# Altium footprint library CopperComponents.PcbLib: 25 footprints (part 2 of 2)
Each footprint in its own frame and in the unit in brackets; x right, y up, seen from the top. Pads: shape width x height; smd on the part's side, far side on the other; paste and mask are expansions set on the pad; w line width, h text height; cw(c..) or ccw(c..) is an arc to the next point about the centre after c.
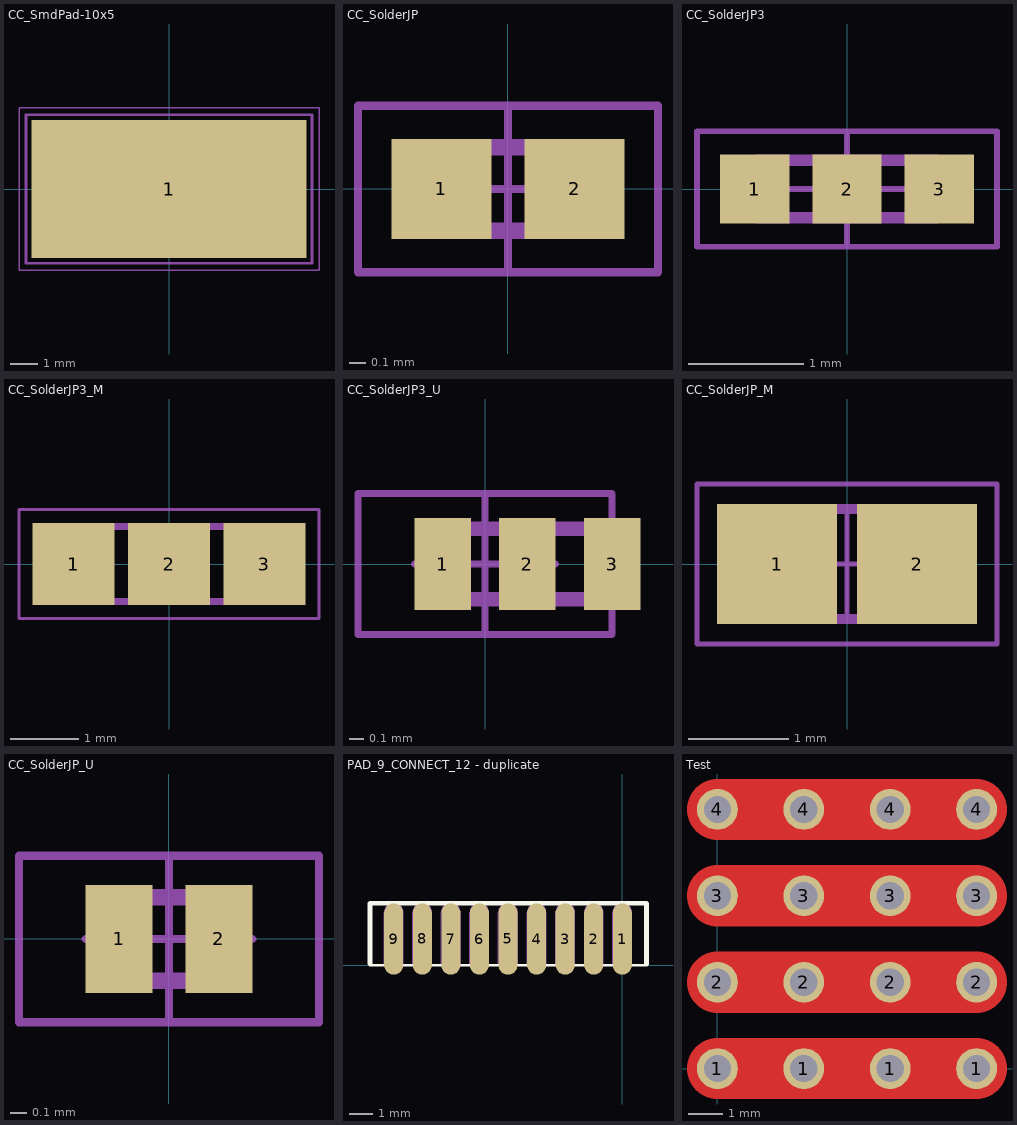
[diagram p1: the footprints below, top view; thin cyan lines are the x and y axes]

## CC_SmdPad-10x5 [mm] "Smd pad 10 x 5 mm"
pads (1):
  rect 10x5 smd: 1(0,0)
TopBody:
  lines w0.1: -5.2,-2.7 5.2,-2.7 5.2,2.7 -5.2,2.7 -5.2,-2.7
TopCourtyard:
  lines w0.05: -0.5,0 0,0 ; 0,-0.5 0,0 ; 0,0.5 0,0 ; 0.5,0 0,0 ; -5.45,-2.95 5.45,-2.95 5.45,2.95 -5.45,2.95 -5.45,-2.95
3D body: height 1, standoff 0, extent -5.2,-2.7 5.2,2.7

## CC_SolderJP [mm] "Small Solder Jumper 2 leads"
pads (2):
  rect 0.6x0.6 smd paste-0.6 mask+0.05: 1(-0.4,0) 2(0.4,0)
TopBody:
  lines w0.1: -0.5,-0.1 ccw(c-0.35,-0.1) -0.35,-0.25 0.35,-0.25 ccw(c0.35,-0.1) 0.5,-0.1 0.5,0.1 ccw(c0.35,0.1) 0.35,0.25 -0.35,0.25 ccw(c-0.35,0.1) -0.5,0.1 ; -0.5,-0.1 -0.5,0.1 ; -0.5,-0.1 -0.4,0 -0.5,0.1 ; -0.5,-0.1 -0.4,-0.1 -0.3,0 -0.4,0.1 -0.5,0.1
  text ".Designator" at -0.8,0.5 h0.5
TopCourtyard:
  lines w0.05: -0.5,0 0.5,0 ; 0,-0.5 0,0.5 ; -0.9,-0.5 0.9,-0.5 0.9,0.5 -0.9,0.5 -0.9,-0.5
3D body: height 0.4, standoff 0, extent -0.512,-0.262 0.512,0.262

## CC_SolderJP3 [mm] "Small Solder Jumper 3 leads"
pads (3):
  rect 0.6x0.6 smd paste-0.6 mask+0.05: 1(-0.8,0) 2(0,0) 3(0.8,0)
TopBody:
  lines w0.1: -0.9,-0.2 -0.7,0 -0.9,0.2 ; -0.9,-0.1 ccw(c-0.75,-0.1) -0.75,-0.25 -0.05,-0.25 ccw(c-0.05,-0.1) 0.1,-0.1 0.1,0.1 ccw(c-0.05,0.1) -0.05,0.25 -0.75,0.25 ccw(c-0.75,0.1) -0.9,0.1 ; -0.9,-0.1 -0.8,0 -0.9,0.1 ; -0.9,-0.1 -0.9,0.1 ; 0.9,-0.1 cw(c0.75,-0.1) 0.75,-0.25 0.05,-0.25 cw(c0.05,-0.1) -0.1,-0.1 -0.1,0.1 cw(c0.05,0.1) 0.05,0.25 0.75,0.25 cw(c0.75,0.1) 0.9,0.1 ; 0.9,-0.1 0.9,0.1 ; 0.9,-0.1 0.9,0.1
  text ".Designator" at -0.8,0.5 h0.5
TopCourtyard:
  lines w0.05: -0.5,0 0.5,0 ; 0,-0.5 0,0.5 ; -1.3,-0.5 -1.3,0.5 1.3,0.5 1.3,-0.5 -1.3,-0.5
3D body: height 0.4, standoff 0, extent -0.912,-0.262 0.112,0.262
3D body: height 0.4, standoff 0, extent -0.112,-0.262 0.912,0.262

## CC_SolderJP3_M [mm] "Medium Solder Jumper 3 leads"
pads (3):
  rect 1.2x1.2 smd paste-0.6 mask+0.05: 1(-1.4,0) 2(0,0) 3(1.4,0)
TopBody:
  lines w0.1: -1.8,-0.3 -1.5,0 -1.8,0.3 ; -1.8,-0.2 -1.6,0 -1.8,0.2 ; -1.8,-0.1 -1.7,0 -1.8,0.1 ; -1.8,-0.55 1.8,-0.55 1.8,0.55 -1.8,0.55 -1.8,-0.55
  text ".Designator" at -0.8,0.9 h0.5
TopCourtyard:
  lines w0.05: -0.5,0 0.5,0 ; 0,-0.5 0,0.5 ; -2.2,-0.8 -2.2,0.8 2.2,0.8 2.2,-0.8 -2.2,-0.8
3D body: height 0.4, standoff -0.01, extent -0.55,-0.55 1.95,0.55
3D body: height 0.4, standoff -0.01, extent -1.95,-0.55 0.55,0.55

## CC_SolderJP3_U [mm] "Micro Solder Jumper 3 leads"
pads (3):
  rect 0.4x0.65 smd paste-0.6 mask+0.05: 1(-0.3,0) 2(0.3,0) 3(0.9,0)
TopBody:
  lines w0.1: -0.4,-0.1 -0.3,0 -0.4,0.1 ; -0.4,-0.125 ccw(c-0.275,-0.125) -0.275,-0.25 0.875,-0.25 ccw(c0.875,-0.125) 1,-0.125 1,0.125 ccw(c0.875,0.125) 0.875,0.25 -0.275,0.25 ccw(c-0.275,0.125) -0.4,0.125 ; -0.4,-0.125 -0.4,0.125 ; -0.4,-0.125 -0.325,-0.125 -0.2,0 -0.325,0.125 -0.4,0.125
  text ".Designator" at -0.8,0.5 h0.5
TopCourtyard:
  lines w0.05: -0.5,0 0.5,0 ; 0,-0.5 0,0.5 ; -0.9,-0.5 0.9,-0.5 0.9,0.5 -0.9,0.5 -0.9,-0.5
3D body: height 0.3, standoff -0.01, extent 0.15,-0.275 1.05,0.275
3D body: height 0.3, standoff -0.01, extent -0.45,-0.275 0.45,0.275

## CC_SolderJP_M [mm] "Medium Solder Jumper 2 leads"
pads (2):
  rect 1.2x1.2 smd paste-0.6 mask+0.05: 1(-0.7,0) 2(0.7,0)
TopBody:
  lines w0.1: -1.1,-0.1 -1,0 -1.1,0.1 ; -1.1,-0.2 -1,-0.2 -0.8,0 -1,0.2 -1.1,0.2 -0.9,0 -1.1,-0.2 ; -1.1,-0.175 ccw(c-0.725,-0.175) -0.725,-0.55 0.725,-0.55 ccw(c0.725,-0.175) 1.1,-0.175 1.1,0.175 ccw(c0.725,0.175) 0.725,0.55 -0.725,0.55 ccw(c-0.725,0.175) -1.1,0.175 -1.1,-0.175
  text ".Designator" at -0.8,0.8 h0.5
TopCourtyard:
  lines w0.05: -0.5,0 0.5,0 ; 0,-0.5 0,0.5 ; -1.5,-0.8 1.5,-0.8 1.5,0.8 -1.5,0.8 -1.5,-0.8
3D body: height 0.4, standoff -0.01, extent -1.25,-0.55 1.25,0.55

## CC_SolderJP_U [mm] "Micro Solder Jumper 2 leads"
pads (2):
  rect 0.4x0.65 smd paste-0.6 mask+0.05: 1(-0.3,0) 2(0.3,0)
TopBody:
  lines w0.1: -0.4,-0.1 -0.3,0 -0.4,0.1 ; -0.4,-0.125 ccw(c-0.275,-0.125) -0.275,-0.25 0.275,-0.25 ccw(c0.275,-0.125) 0.4,-0.125 0.4,0.125 ccw(c0.275,0.125) 0.275,0.25 -0.275,0.25 ccw(c-0.275,0.125) -0.4,0.125 ; -0.4,-0.125 -0.4,0.125 ; -0.4,-0.125 -0.325,-0.125 -0.2,0 -0.325,0.125 -0.4,0.125
  text ".Designator" at -0.8,0.5 h0.5
TopCourtyard:
  lines w0.05: -0.5,0 0.5,0 ; 0,-0.5 0,0.5 ; -0.9,-0.5 0.9,-0.5 0.9,0.5 -0.9,0.5 -0.9,-0.5
3D body: height 0.3, standoff -0.01, extent -0.45,-0.275 0.45,0.275

## PAD_9_CONNECT_12 - duplicate [mm]
height 0.5
pads (9):
  oval 0.8x3 smd paste-5: 1(0,1.1) 2(-1.2,1.1) 3(-2.4,1.1) 4(-3.6,1.1) 5(-4.8,1.1) 6(-6,1.1) 7(-7.2,1.1) 8(-8.4,1.1) 9(-9.6,1.1)
Top Overlay:
  lines w0.1: -10.6,0 1.016,0
  lines w0.2: -10.6,0.06 -10.6,2.6 1.016,2.6 1.016,0.041
TopBody:
  lines w0.01: -10,0 -9.2,0 -9.2,2.2 ccw(c-9.6,2.2) -10,2.2 -10,0 ; -8.8,0 -8,0 -8,2.2 ccw(c-8.4,2.2) -8.8,2.2 -8.8,0 ; -7.6,0 -6.8,0 -6.8,2.2 ccw(c-7.2,2.2) -7.6,2.2 -7.6,0 ; -6.4,0 -5.6,0 -5.6,2.2 ccw(c-6,2.2) -6.4,2.2 -6.4,0 ; -5.2,0 -4.4,0 -4.4,2.2 ccw(c-4.8,2.2) -5.2,2.2 -5.2,0 ; -4,0 -3.2,0 -3.2,2.2 ccw(c-3.6,2.2) -4,2.2 -4,0 ; -2.8,0 -2,0 -2,2.2 ccw(c-2.4,2.2) -2.8,2.2 -2.8,0 ; -1.6,0 -0.8,0 -0.8,2.2 ccw(c-1.2,2.2) -1.6,2.2 -1.6,0 ; -0.4,0 -0.4,2.2 cw(c0,2.2) 0.4,2.2 0.4,0 -0.4,0
3D body: height 0.5, standoff 0, extent -8.808,-0.001 -7.992,2.608
3D body: height 0.5, standoff 0, extent -10.008,-0.001 -9.192,2.608
3D body: height 0.5, standoff 0, extent -7.607,0.001 -6.793,2.607
3D body: height 0.5, standoff 0, extent -6.408,-0.001 -5.592,2.608
3D body: height 0.5, standoff 0, extent -5.208,-0.001 -4.392,2.608
3D body: height 0.5, standoff 0, extent -4.008,-0.001 -3.192,2.608
3D body: height 0.5, standoff 0, extent -2.807,0.001 -1.993,2.607
3D body: height 0.5, standoff 0, extent -1.608,-0.001 -0.792,2.608
3D body: height 0.5, standoff 0, extent -0.407,0.001 0.407,2.607

## Test [mm]
pads (16):
  round 1.2 hole 0.8: 1(0,0) 1(2.54,0) 1(5.08,0) 1(7.62,0) 2(0,2.54) 2(2.54,2.54) 2(5.08,2.54) 2(7.62,2.54) 3(0,5.08) 3(2.54,5.08) 3(5.08,5.08) 3(7.62,5.08) 4(0,7.62) 4(2.54,7.62) 4(5.08,7.62) 4(7.62,7.62)
Top Layer:
  lines w1.8: 0,0 7.62,0 ; 0,2.54 7.62,2.54 ; 0,5.08 7.62,5.08 ; 0,7.62 7.62,7.62